# EAGLE library part AD8226_B (library noah)
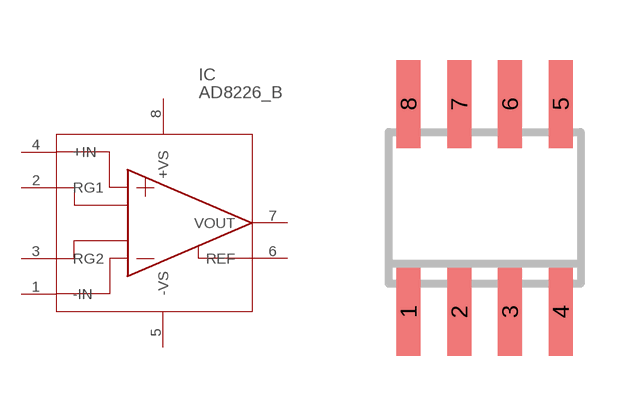
[diagram p47: symbol with the pads of SO08; footprint SO08]

Designator prefix IC

## AD8226_B  [SO08]
1  -IN
2  RG1
3  RG2
4  +IN
5  -VS
6  REF
7  VOUT
8  +VS

## Footprint SO08 (pad centres in mm)
Small Outline Package 8 NS Package M08A
smd 0.6 x 2.2: 1 -1.905,-2.6; 2 -0.635,-2.6; 3 0.635,-2.6; 4 1.905,-2.6; 5 1.905,2.6; 6 0.635,2.6; 7 -0.635,2.6; 8 -1.905,2.6